# Altium schematic symbol library SCH - BUTTON - ESWITCH TL2203EE.SCHLIB: 1 symbol
Pins are listed as number, name and electrical type; pins without a type are passive.

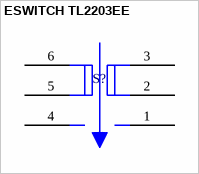
[diagram p0: symbol ESWITCH TL2203EE]

## ESWITCH TL2203EE
designator S?
pins: 1, 2, 3, 4, 5, 6